# EAGLE library part 61004021821 (library Wurth_Elektronik2)
WR-PHD 2.54mm Dual SMT Socket Header, 40 Pins=>Code : Con_BTB_SHD_2.54_1_SMT_61000421821 <http://katalog.we-online.de/media/images/eican/Con_BTB_SHD_2.54_1_SMT_6100xx21821_pf2.jpg> Details see: http://katalog.we-online.de/en/em/610_0xx_218_21 Created 2014-05-30, Karrer Zheng 2014 (C) Würth Elektronik
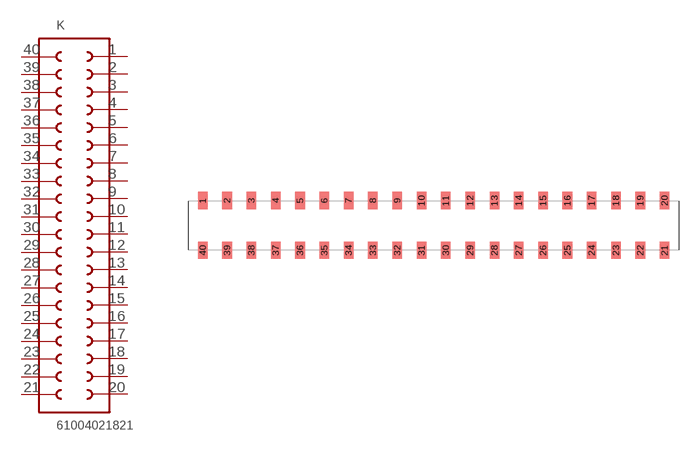
[diagram p228: symbol with the pads of 61004021821; footprint 61004021821]

Designator prefix K

## 61004021821  [61004021821]
1  1  pas
2  2  pas
3  3  pas
4  4  pas
5  5  pas
6  6  pas
7  7  pas
8  8  pas
9  9  pas
10  10  pas
11  11  pas
12  12  pas
13  13  pas
14  14  pas
15  15  pas
16  16  pas
17  17  pas
18  18  pas
19  19  pas
20  20  pas
21  21  pas
22  22  pas
23  23  pas
24  24  pas
25  25  pas
26  26  pas
27  27  pas
28  28  pas
29  29  pas
30  30  pas
31  31  pas
32  32  pas
33  33  pas
34  34  pas
35  35  pas
36  36  pas
37  37  pas
38  38  pas
39  39  pas
40  40  pas

## Footprint 61004021821 (pad centres in mm)
WR-PHD 2.54mm Dual SMT Socket Header, 40 Pins
smd 1 x 1.8: 1 -24.13,2.6; 2 -21.59,2.6; 3 -19.05,2.6; 4 -16.51,2.6; 5 -13.97,2.6; 6 -11.43,2.6; 7 -8.89,2.6; 8 -6.35,2.6; 9 -3.81,2.6; 10 -1.27,2.6; 11 1.27,2.6; 12 3.81,2.6; 13 6.35,2.6; 14 8.89,2.6; 15 11.43,2.6; 16 13.97,2.6; 17 16.51,2.6; 18 19.05,2.6; 19 21.59,2.6; 20 24.13,2.6; 21 24.13,-2.6; 22 21.59,-2.6; 23 19.05,-2.6; 24 16.51,-2.6; 25 13.97,-2.6; 26 11.43,-2.6; 27 8.89,-2.6; 28 6.35,-2.6; 29 3.81,-2.6; 30 1.27,-2.6; 31 -1.27,-2.6; 32 -3.81,-2.6; 33 -6.35,-2.6; 34 -8.89,-2.6; 35 -11.43,-2.6; 36 -13.97,-2.6; 37 -16.51,-2.6; 38 -19.05,-2.6; 39 -21.59,-2.6; 40 -24.13,-2.6